# Altium schematic symbol library SN75176BDE4.SchLib: 1 symbol
Pins are listed as number, name and electrical type; pins without a type are passive.

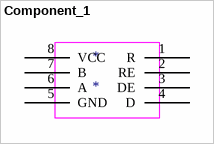
[diagram p0: symbol Component_1]

## Component_1
designator *
pins: 1 R, 2 RE, 3 DE, 4 D, 5 GND, 6 A, 7 B, 8 VCC